# Altium schematic symbol library PNP-B1E2C3.SchLib: 1 symbol
Pins are listed as number, name and electrical type; pins without a type are passive.

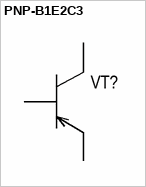
[diagram p0: symbol PNP-B1E2C3]

## PNP-B1E2C3
designator VT?  (value not drawn)
pins: 1, 2, 3